# Altium schematic symbol library Audio-Beamformer.SCHLIB: 43 symbols
Pins are listed as number, name and electrical type; pins without a type are passive.

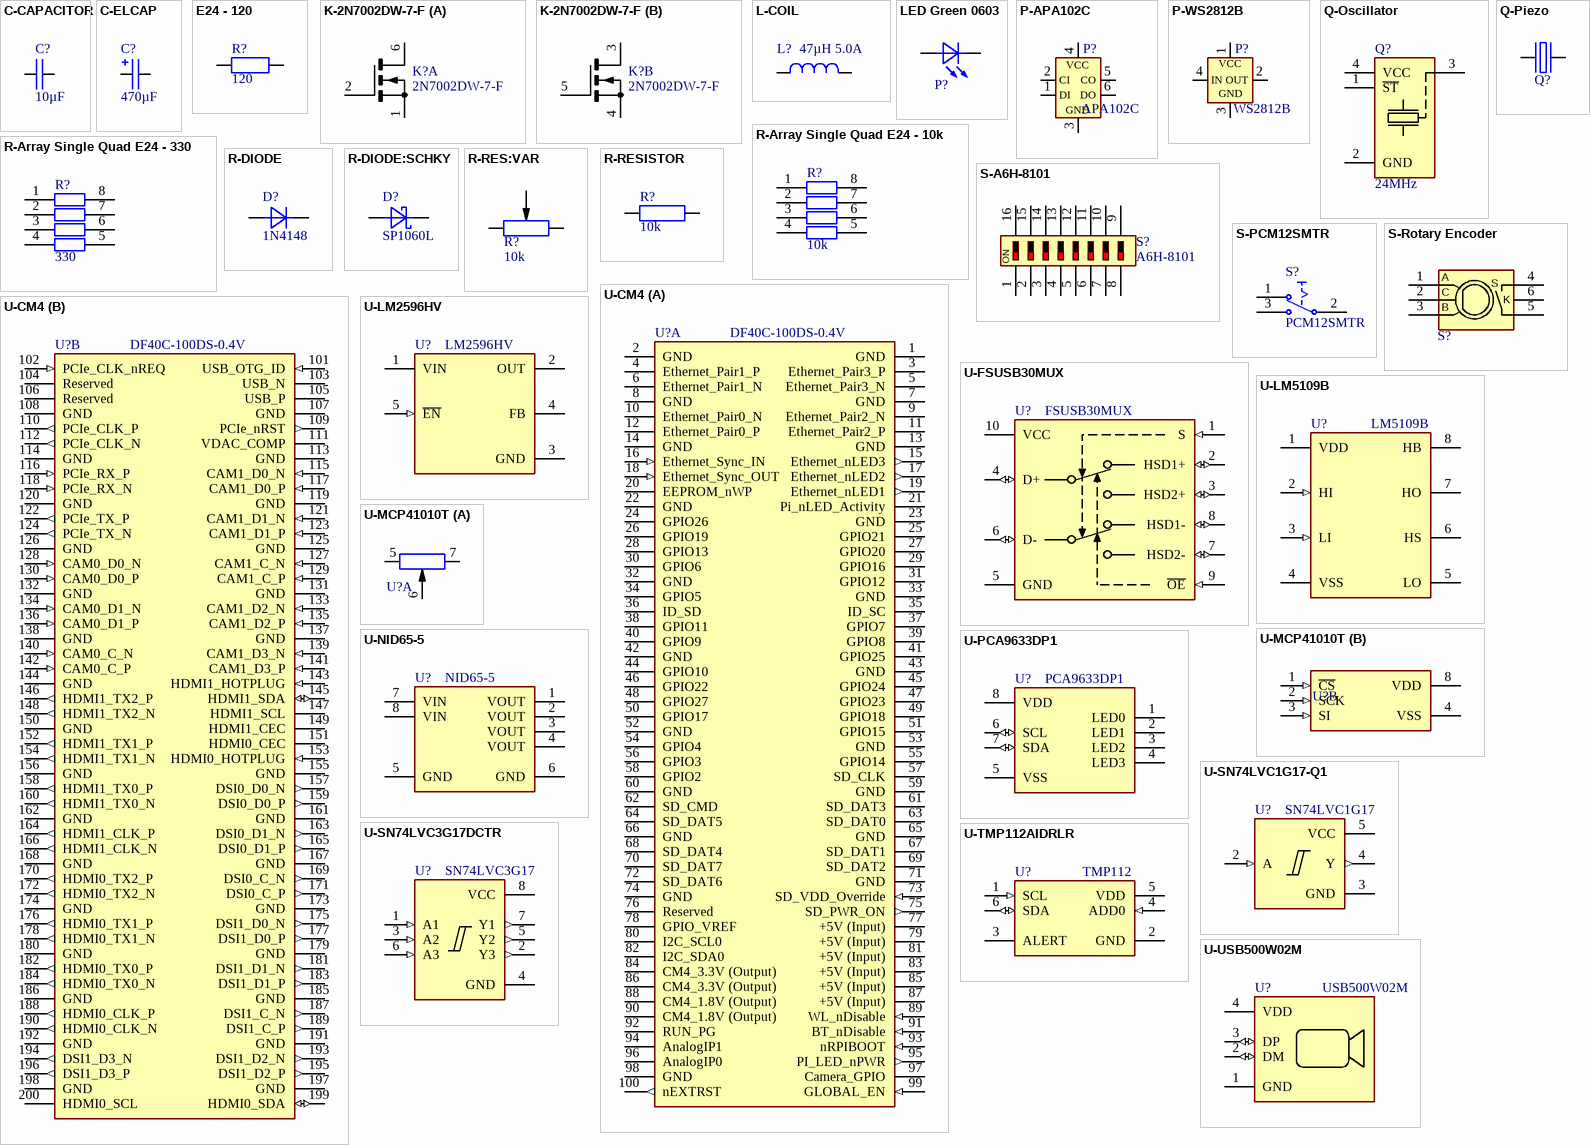
[diagram p0: symbols C-CAPACITOR to U-USB500W02M]

## C-CAPACITOR
designator C?, comment 10µF
CAP-MK; Component Description: Multilayer Ceramic Capacitors; Component Value: 10µF 50V; Digikey: 445-7886-1-ND; Farnell: 2211092; Mouser: 810-CGA5L3X5R1H106K; JLC-Parts: C13585; Unit Price: 0.27
footprint SMD Keramikkondensator 1206
pins: 1, 2
1 alternate drawing of the same symbol

## C-ELCAP
designator C?, comment 470µF
CAP-Elko; Component Description: Electrolytic Capacitor; Component Value: 470µF 25V; Mouser: 140-VEJ471M1ETR1010; JLC-Parts: C176672; Unit Price: 0.17
footprint SMD Elko 10.0x10.0
pins: M -, P +
2 alternate drawings of the same symbol

## E24 - 120
designator R?, comment 120
SMD Chip Resistor E24; Component Value: 120 (75V, 100mW, 1%); ComponentLink1Description: Datasheet; ComponentLink1URL: https://datasheet.lcsc.com/lcsc/1810200710_UNI-ROYAL-Uniroyal-Elec-0603WAF4701T5E_C23162.pdf; Digikey: P120HCT-ND; Farnell: 2303067; JLC-Parts: C22787; Mouser: 667-ERJ-3EKF1200V; Unit Price: 0.01; Component Description: Chip Resistor
footprint SMD Widerstand 0603
pins: 1, 2
1 alternate drawing of the same symbol

## K-2N7002DW-7-F
designator K?, comment 2N7002DW-7-F
Dual N-Channel MOSFET; Digikey: 2N7002DW-FDICT-ND; Mouser: 621-2N7002DW-F; ComponentLink1Description: Datasheet; ComponentLink1URL: https://datasheet.lcsc.com/lcsc/1810111020_Diodes-Incorporated-2N7002DW-7-F_C83571.pdf; JLC-Parts: C83571; Component Description: Dual N-Channel MOSFET; Component Value: 2N7002DW-7-F; Unit Price: 0.35
footprint SMD IC SOT-363 (SC-70-6)
part A pins: 1 S1, 2 G1, 6 D1
part B pins: 3 D2, 4 S2, 5 G2

## L-COIL
designator L?, comment 47µH 5.0A
Shielded Power Inductor; ComponentLink1Description: Datasheet; ComponentLink1URL: https://datasheet.lcsc.com/lcsc/2003172239_YJYCOIN-YSPI1365-470M_C497913.pdf; Digikey: 118-SRP1265WA-470MCT-ND; Farnell: 3929029; JLC-Parts: C497913; Mouser: 652-SRP1265WA-470M; Component Description: Shielded Power Inductor; Component Value: 47µH 5.0A; Unit Price: 0.68
footprint SMD Inductor 13.8x12.6x6.5
pins: 1, 2
2 alternate drawings of the same symbol

## LED Green 0603
designator P?, comment Green  (value not drawn)
General Purpose LED; Component Value: Green (5mA, 2.4V); Digikey: 350-2035-1-ND; Farnell: 1465991; Mouser: 645-598-8070-107F; Unit Price: 0.34; ComponentLink1Description: Datasheet; ComponentLink1URL: https://datasheet.lcsc.com/szlcsc/Everlight-Elec-19-217-GHC-YR1S2-3T_C72043.pdf; JLC-Parts: C72043; Component Description: General Purpose LED
footprint SMD LED 0603 (SMD_LED_RED)
pins: A, K

## P-APA102C
designator P?, comment APA102C
Smart RGB-LED; Digikey: 1568-COM-16345-ND; Mouser: 474-COM-16345; ComponentLink1Description: Datasheet; ComponentLink1URL: https://cdn.sparkfun.com/datasheets/Components/LED/APA102C.pdf; Component Description: Smart RGB-LED; Component Value: APA102C; Unit Price: 0.35
pins: 1 DI, 2 CI, 3 GND (power), 4 VCC (power), 5 CO, 6 DO

## P-WS2812B
designator P?, comment WS2812B
Smart RGB-LED; aliExpress: 32550663121; Digikey: 1568-COM-16346-ND; Mouser: 474-COM-16346; JLC-Parts: C2843785; ComponentLink1Description: Datasheet; ComponentLink1URL: http://cdn.sparkfun.com/datasheets/BreakoutBoards/WS2812B.pdf; Component Description: Smart RGB-LED; Component Value: WS2812B; Unit Price: 0.10
footprint SMD LED WS2812B-5050 (SMD_LED_RED)
pins: 1 VCC (power), 2 OUT (power), 3 GND (power), 4 IN (power)

## Q-Oscillator
designator Q?, comment 24MHz
Crystal Oscillator; Bauteilwert: 24MHz (3.3V , ±10ppm); Stückpreis: 0.34; Beschreibung: Crystal Oscillator; DigiKey: ASE-24.000MHZ-LR-T; Mouser: 815-ASE24.000MHZLRT; Farnell: 3819793; JLC-Parts: C717686
footprint SMD Crystal Oscillator 3.2X2.5X1.2 (SMD_LED_RED)
pins: 1 ~{ST}, 2 GND, 3 OUT, 4 VCC

## Q-Piezo
designator Q?, comment MA40A16  (value not drawn)
Ultrasonic Transducer; Component Value: MA40A16 (40kHz, 16mm); ComponentLink1Description: Datasheet; Component Description: Ultrasonic Transducer; Unit Price: 0.40
footprint THT Transducer (MA40A16) (Capacitor, Electrolytic, Radial; Body 5 x 5 mm (Dia.xH typ); Pin Spacing 2 mm (typ))
pins: 1, 2

## R-Array Single Quad E24 - 10k
designator R?, comment 10k
Isolated Resistor Array; Component Value: 10k (4x, 50V, 62.5mW, 5%); ComponentLink1Description: Datasheet; ComponentLink1URL: https://datasheet.lcsc.com/lcsc/1810191515_UNI-ROYAL-Uniroyal-Elec-4D03WGJ0103T5E_C29718.pdf; Digikey: Y4103CT-ND; Farnell: 2060167; JLC-Parts: C29718; Mouser: 667-EXB-V8V103JV; Unit Price: 0.01; Component Description: Isolated Resistor Array
footprint SMD Widerstand Array 4-Fach 0603
pins: 1, 2, 3, 4, 5, 6, 7, 8

## R-Array Single Quad E24 - 330
designator R?, comment 330
Isolated Resistor Array; Component Value: 330 (4x, 50V, 62.5mW, 5%); ComponentLink1Description: Datasheet; ComponentLink1URL: https://datasheet.lcsc.com/lcsc/1810170717_UNI-ROYAL-Uniroyal-Elec-4D03WGJ0331T5E_C12018.pdf; Digikey: Y4331CT-ND; Farnell: 2060160; JLC-Parts: C12018; Mouser: 667-EXB-V8V331JV; Unit Price: 0.01; Component Description: Isolated Resistor Array
footprint SMD Widerstand Array 4-Fach 0603
pins: 1, 2, 3, 4, 5, 6, 7, 8

## R-DIODE
designator D?, comment 1N4148
DIODE (alt V); Component Description: Fast Switching Diode; Component Value: 1N4148WTR; Digikey: 1655-1360-1-ND; Farnell: 2306363; Mouser: 750-1N4148W-HF; ComponentLink1Description: Datasheet; ComponentLink1URL: https://datasheet.lcsc.com/lcsc/1811061725_ST-Semtech-1N4148W_C81598.pdf; JLC-Parts: C81598; Unit Price: 0.01
footprint SMD Diode SOD-123 (SM LED; 2 Flat Leads)
pins: A, K
2 alternate drawings of the same symbol

## R-DIODE:SCHKY
designator D?, comment SP1060L
S-DIODE; Component Description: Low Voltage Schottky-Diode; JLC-Parts: C2693399; ComponentLink1Description: Datasheet; ComponentLink1URL: https://datasheet.lcsc.com/lcsc/2103051837_Changjiang-Electronics-Tech--CJ-SP1060L_C2693399.pdf; Component Value: SP1060L; Unit Price: 0.32
footprint SMD Diode TO-277 (SM LED; 2 Flat Leads)
pins: A, K

## R-RES:VAR
designator R?, comment 10k
RES-VAR; Component Description: Potentiometer; Component Value: RK09D1130C2P (10k); ComponentLink1Description: Datasheet; ComponentLink1URL: https://tech.alpsalpine.com/prod/e/html/potentiometer/rotarypotentiometers/rk09k/rk09d1130c2p.html; JLC-Parts: C361173; Mouser: 688-RK09D1130C2P; Unit Price: 0.90
footprint THT Potentiometer (RK09D1130C2P) (Capacitor, Electrolytic, Radial; Body 5 x 5 mm (Dia.xH typ); Pin Spacing 2 mm (typ))
pins: CCW, CW, M
2 alternate drawings of the same symbol

## R-RESISTOR
designator R?, comment 10k
RES (E=Heizwiderstand B=Messwandler); Component Description: Thick Film Chip Resistor; Component Value: 10k (75V, 100mW, 1%); Digikey: P10.0KHCT-ND; Farnell: 2303192; Mouser: 667-ERJ-3EKF1002V; JLC-Parts: C25804; Unit Price: 0.01
footprint SMD Widerstand 0603
pins: 1, 2
1 alternate drawing of the same symbol

## S-A6H-8101
designator S?, comment A6H-8101
DIP-Switch 8 Positions; Digikey: SW1118-ND; Farnell: 8774277; Mouser: 653-A6H-8101; JLC-Parts: C89711; Component Description: DIP-Switch 8 Positions; Component Value: A6H-8101; Unit Price: 2.92
footprint SMD DIP-Switch 8-Pos
pins: 1, 2, 3, 4, 5, 6, 7, 8, 9, 10, 11, 12, 13, 14, 15, 16
2 alternate drawings of the same symbol
text: ON

## S-PCM12SMTR
designator S?, comment PCM12SMTR
Miniature Slide Switch; aliExpress: 33002042977; Component Value: PCM12SMTR (SPDT); Digikey: 401-2016-1-ND; Mouser: 611-PCM12SMTR; Farnell: 9575146; JLC-Parts: C221841; Component Description: Miniature Slide Switch; Unit Price: 0.77
footprint SMD Switch SPDT (PCM12SMTR)
pins: 1 NC1, 2 COMMON1, 3 NO1

## S-Rotary Encoder
designator S?, comment PEC11R-4025F-S0024  (value not drawn)
Rotary Encoder; Component Description: Rotary Encoder with Switch; Digikey: PEC11R-4025F-S0024; Mouser: 652-PEC11R4025FS0024; ComponentLink1Description: Datasheet; Component Value: PEC11R-4025F-S0024
footprint THT Rotary Encoder with Switch
pins: 1 A, 2 C, 3 B, 4 S, 5 S, 6 K

## U-CM4
designator U?, comment DF40C-100DS-0.4V
Board-To-Board Connector; ComponentLink1Description: Datasheet; ComponentLink1URL: https://www.farnell.com/datasheets/2691051.pdf; Digikey: H11615CT-ND; Component Value: DF40C-100DS-0.4V; Farnell: 2427679; JLC-Parts: C597931; Mouser: 798-DF40C100DS0.4V51; Unit Price: 1.59; Component Description: Board-To-Board Connector
footprint SMD IC TO-263-5
part A pins: 1 GND (power) "Ground (0V)", 2 GND (power) "Ground (0V)", 3 Ethernet_Pair3_P "Ethernet Pair 3 Positive ( connect to Transformer or MagJack)", 4 Ethernet_Pair1_P "Ethernet Pair 1 Positive ( connect to Transformer or MagJack)", 5 Ethernet_Pair3_N "Ethernet Pair 3 Negative ( connect to Transformer or MagJack)", 6 Ethernet_Pair1_N "Ethernet Pair 1 Negative ( connect to Transformer or MagJack)", 7 GND (power) "Ground (0V)", 8 GND (power) "Ground (0V)", 9 Ethernet_Pair2_N "Ethernet Pair 2 Negative ( connect to Transformer or MagJack)", 10 Ethernet_Pair0_N "Ethernet Pair 0 Negative ( connect to Transformer or MagJack)", 11 Ethernet_Pair2_P "Ethernet Pair 2 Positive ( connect to Transformer or MagJack)", 12 Ethernet_Pair0_P "Ethernet Pair 0 Positive ( connect to Transformer or MagJack)", 13 GND (power) "Ground (0V)", 14 GND (power) "Ground (0V)", 15 Ethernet_nLED3 (out) "Low Active Ethernet Activity indicator ( 3.3V signal) Typically a Green LED is connected to this pin: IOL = 8mA @ VOL< 0.4V", 16 Ethernet_Sync_IN (in) "IEEE1588 SYNC Input pin ( 1.8V signal : IOL = 8mA @ VOL< 0.4V )", 17 Ethernet_nLED2 (out) "Low Active Ethernet speed indicator ( 3.3V signal) Typically a Yellow LED is connected to this pin. A low State indicates the 1Gbit or 100Mbit Link : IOL = 8mA @ VOL< 0.4V", 18 Ethernet_Sync_OUT (in) "IEEE1588 SYNC Output pin ( 1.8V signal : IOL = 8mA @ VOL< 0.4V )", 19 Ethernet_nLED1 (out) "Low Active Ethernet speed indicator ( 3.3V signal) Typically a Yellow LED is connected to this pin. A low State indicates the 1Gbit or 10Mbit Link : IOL = 8mA @ VOL< 0.4V", 20 EEPROM_nWP "Leaving floating NB internally pulled up to CM4_3.3V via 100K ( VIL <0.8V) but can be grounded to prevent writing to the on board EEPROM which stores the bootcode", 21 Pi_nLED_Activity (oc) "Low Active Pi Activity LED. 20mA Max 5V tolerant ( VOL<0.4V). ( this is the signal that drives the Green LED on the Raspberry Pi 4, Model B )", 22 GND (power) "Ground (0V)", 23 GND (power) "Ground (0V)", 24 GPIO26 "Pin37", 25 GPIO21 "Pin40", 26 GPIO19 "Pin35", 27 GPIO20 "Pin38", 28 GPIO13 "Pin33 PWM1", 29 GPIO16 "Pin36", 30 GPIO6 "Pin31", 31 GPIO12 "Pin32 PWM0", 32 GND (power) "Ground (0V)", 33 GND (power) "Ground (0V)", 34 GPIO5 "Pin29", 35 ID_SC "Pin28 GPIO1 SCL0", 36 ID_SD "Pin27 GPIO0 SDA0", 37 GPIO7 "Pin26 SPI0_CE1", 38 GPIO11 "Pin23 SPI0_CLK", 39 GPIO8 "Pin24 SPI0_CE0", 40 GPIO9 "Pin21 SPI0_MISO", 41 GPIO25 "Pin22", 42 GND (power) "Ground (0V)", 43 GND (power) "Ground (0V)", 44 GPIO10 "Pin19 SPI0_MOSI", 45 GPIO24 "Pin18", 46 GPIO22 "Pin15", 47 GPIO23 "Pin16", 48 GPIO27 "Pin13", 49 GPIO18 "Pin12", 50 GPIO17 "Pin11", 51 GPIO15 "Pin10 RXD0", 52 GND (power) "Ground (0V)", 53 GND (power) "Ground (0V)", 54 GPIO4 "Pin7 GPCLK0", 55 GPIO14 "Pin8 TXD0", 56 GPIO3 "Pin5 SCL1 Internal 1.8K pull up", 57 SD_CLK "SDCARD Clock signal (only available on CM4Lite)", 58 GPIO2 "Pin3 SDA1 Internal 1.8K pull up", 59 GND (power) "Ground (0V)", 60 GND (power) "Ground (0V)", 61 SD_DAT3 "SDCARD/eMMC Data3 signal (only available on CM4Lite)", 62 SD_CMD "SDCARD/eMMC Command signal (only available on CM4Lite)", 63 SD_DAT0 "SDCARD/eMMC Data0 signal (only available on CM4Lite)", 64 SD_DAT5 "SDCARD/eMMC Data5 signal (only available on CM4Lite)", 65 GND (power) "Ground (0V)", 66 GND (power) "Ground (0V)", 67 SD_DAT1 "SDCARD/eMMC Data1 signal (only available on CM4Lite)", 68 SD_DAT4 "SDCARD/eMMC Data4 signal (only available on CM4Lite)", 69 SD_DAT2 "SDCARD/eMMC Data2 signal (only available on CM4Lite)", 70 SD_DAT7 "SDCARD/eMMC Data7 signal (only available on CM4Lite)", 71 GND (power) "Ground (0V)", 72 SD_DAT6 "SDCARD/eMMC Data6 signal (only available on CM4Lite)", 73 SD_VDD_Override (in) "Force SDCARD/eMMC interface to 1.8V signalling if set to 3.3V, otherwise leave unconnected. Typically only used if external eMMC is connected", 74 GND (power) "Ground (0V)", 75 SD_PWR_ON (out) "Output to Power switch for SDCARD. CM4 sets this pin High (3.3V) to signal that Power to the SDCARD should be turned on. If booting from the SDCARD is required then a pullup should be fitted (only available on CM4Lite)", 76 Reserved "Do not Connect anything to this pin.", 77 +5V (Input) (power) "4.75V-5.25V Main power input", 78 GPIO_VREF (power) "Must be connected to CM4_3.3V ( pins 84 and 86 ) for 3.3V GPIO or CM4_1.8V ( pins 88 and 90) for 1.8V GPIO. This pin cannot be floating or connected to ground", 79 +5V (Input) (power) "4.75V-5.25V Main power input", 80 I2C_SCL0 "IIC Clock pin ( Raspberry Pi GPIO45) Typically used for Camera and Displays Internal 1.8K pull up to CM4_3.3V", 81 +5V (Input) (power) "4.75V-5.25V Main power input", 82 I2C_SDA0 "IIC Data pin ( Raspberry Pi GPIO44 ) Typically used for Camera and Displays Internal 1.8K pull up to CM4_3.3V", 83 +5V (Input) (power) "4.75V-5.25V Main power input", 84 CM4_3.3V (Output) (power) "3.3V +/-2.5% Power Output max 300mA per pin for a total of 600mA. This will be powered down during power off or GLOBAL_EN being set low", 85 +5V (Input) (power) "4.75V-5.25V Main power input", 86 CM4_3.3V (Output) (power) "3.3V +/-2.5% Power Output max 300mA per pin for a total of 600mA. This will be powered down during power off or GLOBAL_EN being set low", 87 +5V (Input) (power) "4.75V-5.25V Main power input", 88 CM4_1.8V (Output) (power) "1.8V +/-2.5% Power Output max 300mA per pin for a total of 600mA. This will be powered down during power off or GLOBAL_EN being set low", 89 WL_nDisable (in) "Can be left floating if driven low the wireless interface will be disabled. Internal pulled up via 1.8K to CM4_3.3V", 90 CM4_1.8V (Output) (power) "1.8V +/-2.5% Power Output max 300mA per pin for a total of 600mA. This will be powered down during power off or GLOBAL_EN being set low", 91 BT_nDisable (in) "Can be left floating if driven low the Bluetooth interface will be disabled. Internal pulled up via 1.8K to CM4_3.3V", 92 RUN_PG "Bidirectional pin. Can be driven low ( via a 220R resistor) to Reset the CM4 CPU. As an Output a high signals Power Good and CPU running. Internally pulled up to +3.3V via 10K", 93 nRPIBOOT (in) "A low on this pin force booting from an RPI server ( e.g PC or a Raspberry Pi)  if not used leave floating. Internally pulled via 10K to +3.3V", 94 AnalogIP1 "Analogue input of the MAX7704. Typically connected to CC pin of Type C power connector", 95 PI_LED_nPWR (out) "Low active Output to drive Power On LED. This signal needs to be buffered.", 96 AnalogIP0 "Analogue input of the MAX7704. Typically connected to CC pin of Type C power connector", 97 Camera_GPIO "Typically used to Shutdown the camera to reduce power. Reassigning this pin to another function isn’t recommended. CM4_3.3V signalling", 98 GND (power) "Ground (0V)", 99 GLOBAL_EN (in) "Input. Drive low to power off CM4. Internally pulled up with a 100K to +5V", 100 nEXTRST (out) "Output Driven low during reset Driven high (CM4_3.3V) once CM4 CPU has started to boot"
part B pins: 101 USB_OTG_ID (in) "Input ( 3.3V signal ) USB OTG Pin. Internal pulled up. When grounded the CM4 becomes a USB host but the correct OS driver also needs to be used", 102 PCIe_CLK_nREQ (in) "Input ( 3.3V signal) PCIe Clock request pin (low to request PCI clock). Internal pulled up", 103 USB_N "USB D-", 104 Reserved "Do not Connect anything to this pin.", 105 USB_P "USB D+", 106 Reserved "Do not Connect anything to this pin.", 107 GND (power) "Ground (0V)", 108 GND (power) "Ground (0V)", 109 PCIe_nRST (out) "Output (+3.3V signal) PCIe Reset Low active", 110 PCIe_CLK_P (out) "PCIe Clock Out Positive (100MHz) NB AC coupling Capacitor Included on CM4", 111 VDAC_COMP "Video DAC output (TV OUT)", 112 PCIe_CLK_N (out) "PCIe Clock Out Negative (100MHz) NB AC coupling Capacitor Included on CM4", 113 GND (power) "Ground (0V)", 114 GND (power) "Ground (0V)", 115 CAM1_D0_N (in) "Input Camera1 D0 Negative", 116 PCIe_RX_P (in) "Input PCIe GEN 2 RX Positive NB External AC coupling Capacitor required", 117 CAM1_D0_P (in) "Input Camera1 D0 Positive", 118 PCIe_RX_N (in) "Input PCIe GEN 2 RX Negative NB External AC coupling Capacitor required", 119 GND (power) "Ground (0V)", 120 GND (power) "Ground (0V)", 121 CAM1_D1_N (in) "Input Camera1 D1 Negative", 122 PCIe_TX_P (out) "Output PCIe GEN 2 TX Positive NB AC coupling Capacitor Included on CM4", 123 CAM1_D1_P (in) "Input Camera1 D1 Positive", 124 PCIe_TX_N (out) "Output PCIe GEN 2 TX Positive NB AC coupling Capacitor Included on CM4", 125 GND (power) "Ground (0V)", 126 GND (power) "Ground (0V)", 127 CAM1_C_N (in) "Input Camera1 Clock Negative", 128 CAM0_D0_N (in) "Input Camera0 D0 Negative", 129 CAM1_C_P (in) "Input Camera1 Clock Positive", 130 CAM0_D0_P (in) "Input Camera0 D0 Positive", 131 GND (power) "Ground (0V)", 132 GND (power) "Ground (0V)", 133 CAM1_D2_N (in) "Input Camera1 D2 Negative", 134 CAM0_D1_N (in) "Input Camera0 D1 Negative", 135 CAM1_D2_P (in) "Input Camera1 D2 Positive", 136 CAM0_D1_P (in) "Input Camera0 D1 Positive", 137 GND (power) "Ground (0V)", 138 GND (power) "Ground (0V)", 139 CAM1_D3_N (in) "Input Camera1 D3 Negative", 140 CAM0_C_N (in) "Input Camera0 Clock Negative", 141 CAM1_D3_P (in) "Input Camera1 D3 Positive", 142 CAM0_C_P (in) "Input Camera0 Clock Positive", 143 HDMI1_HOTPLUG (in) "Input HDMI1 Hotplug Internally pulled down with a 100K. 5V tolerant. (It can be connected directly to a HDMI connector a small amount of ESD protection is provided on the CM4 by an on board HDMI05-CL02F3)", 144 GND (power) "Ground (0V)", 145 HDMI1_SDA (io) "Bidir HDMI1 SDA Internally pulled up with a 1.8K. 5V tolerant. (It can be connected directly to a HDMI connector a small amount of ESD protection is provided on the CM4 by an on board HDMI05-CL02F3)", 146 HDMI1_TX2_P (out) "Output HDMI1 TX2 Positive", 147 HDMI1_SCL (oc) "Input HDMI1 SCL Internally pulled up with a 1.8K. 5V tolerant. (It can be connected directly to a HDMI connector a small amount of ESD protection is provided on the CM4 by an on board HDMI05-CL02F3)", 148 HDMI1_TX2_N (out) "Output HDMI1 TX2 Negative", 149 HDMI1_CEC (oc) "Input HDMI1 CEC Internally pulled up with a 27K. 5V tolerant. (It can be connected directly to a HDMI connector a small amount of ESD protection is provided on the CM4 by an on board HDMI05-CL02F3)", 150 GND (power) "Ground (0V)", 151 HDMI0_CEC (oc) "Input HDMI0 CEC Internally pulled up with a 27K. 5V tolerant (It can be connected directly to a HDMI connector a small amount of ESD protection is provided on the CM4 by an on board HDMI05-CL02F3)", 152 HDMI1_TX1_P (out) "Output HDMI1 TX1 Positive", 153 HDMI0_HOTPLUG (in) "Input HDMI0 Hotplug Internally pulled down 100K. 5V tolerant. (It can be connected directly to a HDMI connector a small amount of ESD protection is provided on the CM4 by an on board HDMI05-CL02F3)", 154 HDMI1_TX1_N (out) "Output HDMI1 TX1 Negative", 155 GND (power) "Ground (0V)", 156 GND (power) "Ground (0V)", 157 DSI0_D0_N (out) "Output Display0 D0 Negative", 158 HDMI1_TX0_P (out) "Output HDMI1 TX0 Positive", 159 DSI0_D0_P (out) "Output Display0 D0 Positive", 160 HDMI1_TX0_N (out) "Output HDMI1 TX0 Negative", 161 GND (power) "Ground (0V)", 162 GND (power) "Ground (0V)", 163 DSI0_D1_N (out) "Output Display0 D1 Negative", 164 HDMI1_CLK_P (out) "Output HDMI1 Clock Positive", 165 DSI0_D1_P (out) "Output Display0 D1 Positive", 166 HDMI1_CLK_N (out) "Output HDMI1 Clock Negative", 167 GND (power) "Ground (0V)", 168 GND (power) "Ground (0V)", 169 DSI0_C_N (out) "Output Display0 Clock Negative", 170 HDMI0_TX2_P (out) "Output HDMI0 TX2 Positive", 171 DSI0_C_P (out) "Output Display0 Clock Positive", 172 HDMI0_TX2_N (out) "Output HDMI0 TX2 Negative", 173 GND (power) "Ground (0V)", 174 GND (power) "Ground (0V)", 175 DSI1_D0_N (out) "Output Display1 D0 Negative", 176 HDMI0_TX1_P (out) "Output HDMI0 TX1 Positive", 177 DSI1_D0_P (out) "Output Display1 D0 Positive", 178 HDMI0_TX1_N (out) "Output HDMI0 TX1 Negative", 179 GND (power) "Ground (0V)", 180 GND (power) "Ground (0V)", 181 DSI1_D1_N (out) "Output Display1 D1 Negative", 182 HDMI0_TX0_P (out) "Output HDMI0 TX0 Positive", 183 DSI1_D1_P (out) "Output Display1 D1 Positive", 184 HDMI0_TX0_N (out) "Output HDMI0 TX0 Negative", 185 GND (power) "Ground (0V)", 186 GND (power) "Ground (0V)", 187 DSI1_C_N (out) "Output Display1 Clock Negative", 188 HDMI0_CLK_P (out) "Output HDMI0 Clock Positive", 189 DSI1_C_P (out) "Output Display1 Clock Positive", 190 HDMI0_CLK_N (out) "Output HDMI0 Clock Negative", 191 GND (power) "Ground (0V)", 192 GND (power) "Ground (0V)", 193 DSI1_D2_N (out) "Output Display1 D2 Negative", 194 DSI1_D3_N (out) "Output Display1 D3 Negative", 195 DSI1_D2_P (out) "Output Display1 D2 Positive", 196 DSI1_D3_P (out) "Output Display1 D3 Positive", 197 GND (power) "Ground (0V)", 198 GND (power) "Ground (0V)", 199 HDMI0_SDA (io) "Bidir HDMI0 SDA Internally pulled up with a 1.8K. 5V tolerant. (It can be connected directly to a HDMI connector a small amount of ESD protection is provided on the CM4 by an on board HDMI05-CL02F3)", 200 HDMI0_SCL (oc) "Bidir HDMI0 SCL Internally pulled up with a 1.8K. 5V tolerant. (It can be connected directly to a HDMI connector a small amount of ESD protection is provided on the CM4 by an on board HDMI05-CL02F3)"

## U-FSUSB30MUX
designator U?, comment FSUSB30MUX
High Speed USB 2.0 Switch; Digikey: FSUSB30MUXCT-ND; Farnell: 1495465; Mouser: 512-FSUSB30MUX; Component Description: High Speed USB 2.0 Switch; ComponentLink1Description: Datasheet; ComponentLink1URL: https://datasheet.lcsc.com/lcsc/1809111813_onsemi-FSUSB30MUX_C11143.pdf; Component Value: FSUSB30MUX; JLC-Parts: C11143; Unit Price: 0.41
footprint SMD IC SOT-363 (SC-70-5)
pins: 1 NC hidden, 1 S (in), 2 HSD1+ (io), 3 HSD2+ (io), 4 D+ (io), 5 GND (power), 6 D- (io), 7 HSD2- (io), 8 HSD1- (io), 9 ~{OE} (in), 10 VCC (power)

## U-LM2596HV
designator U?, comment LM2596HV
High Power Switching Buck Converter; Component Value: LM2596HVS-ADJ/TR; ComponentLink1Description: Datasheet; ComponentLink1URL: https://datasheet.lcsc.com/lcsc/2006151006_HTC-Korea-TAEJIN-Tech-LM2596HVGR-ADJ_C508705.pdf; JLC-Parts: C356713; Unit Price: 1.71; Component Description: High Power Switching Buck Converter
footprint SMD IC TO-263-5
pins: 1 VIN (power), 2 OUT, 3 GND (power), 4 FB, 5 ~{EN} (in)

## U-LM5109B
designator U?, comment LM5109B
High Voltage 1A Peak Half Bridge Gate Driver; Component Description: High Voltage Gate Driver; ComponentLink1Description: Datasheet; ComponentLink1URL: https://datasheet.lcsc.com/lcsc/1809172040_Texas-Instruments-LM5109AMAX-NOPB_C129332.pdf; Digikey: LM5109BMA/NOPB-ND; Component Value: LM5109B; Farnell: 3005776; JLC-Parts: C116862; Mouser: 926-LM5109BMAX/NOPB; Unit Price: 1.13
footprint SMD IC SOIC-8
pins: 1 VDD (power), 2 HI (in), 3 LI (in), 4 VSS (power), 5 LO, 6 HS, 7 HO, 8 HB

## U-MCP41010T
designator U?, comment MCP41010T  (value not drawn)
Component Description: Digital-Potentiometer 8-Bit; Component Value: MCP41010T-I/SN (10k); ComponentLink1Description: Datasheet; ComponentLink1URL: https://datasheet.lcsc.com/lcsc/1806121747_Microchip-Tech-MCP41010T-I-SN_C136395.pdf; Digikey: MCP41010T-I/SNCT-ND; Farnell: 2857765; JLC-Parts: C136395; Mouser: 579-MCP41010T-I/SN; Unit Price: 2.70
footprint SMD IC TSSOP-14 (Shrink Small Outline; 16 Leads; Body Width 4.4 mm; Pitch 0.65 mm)
part A pins: 5 H, 6 M, 7 L
part B pins: 1 ~{CS} (in), 2 SCK (in), 3 SI (in), 4 VSS (power), 7 NC hidden, 8 NC hidden, 8 VDD (power), 9 NC hidden, 12 NC hidden, 13 NC hidden

## U-NID65-5
designator U?, comment NID65-5
High Power Switching Buck Converter; ComponentLink1Description: Datasheet; ComponentLink1URL: https://www.meanwellusa.com/webapp/product/search.aspx?prod=NID65#1; Digikey: NID65-5-ND; Component Value: NID65-5; Farnell: 3253319; Mouser: 709-NID65-5; Unit Price: 16.40; Component Description: High Power Switching Buck Converter
footprint SMD IC TO-263-5
pins: 1 VOUT (power), 2 VOUT (power), 3 VOUT (power), 4 VOUT (power), 5 GND (power), 6 GND (power), 7 VIN (power), 8 VIN (power), 9 NC hidden, 10 NC hidden, 11 NC hidden

## U-PCA9633DP1
designator U?, comment PCA9633DP1
I2C Quad LED-Driver; Digikey: 568-3236-1-ND; Farnell: 2759862; Mouser: 771-PCA9633DP1-T; Component Description: I2C Quad LED-Driver; ComponentLink1Description: Datasheet; ComponentLink1URL: https://datasheet.lcsc.com/lcsc/1806132321_NXP-Semicon-PCA9633DP1-118_C88381.pdf; Component Value: PCA9633DP1; JLC-Parts: C88381; Unit Price: 1.45
pins: 1 LED0, 2 LED1, 3 LED2, 4 LED3, 5 VSS (power), 6 SCL (io), 7 SDA (io), 8 VDD (power)

## U-SN74LVC1G17-Q1
designator U?, comment SN74LVC1G17
Single Schmitt-Trigger Buffer; Component Value: SN74LVC1G17-Q1; Digikey: 296-23709-1-ND; Farnell: 2499832; Mouser: 595-74LVC1G17QDCKRQ1; Component Description: Single Schmitt-Trigger Buffer; ComponentLink1Description: Datasheet; ComponentLink1URL: https://datasheet.lcsc.com/lcsc/1809192011_Texas-Instruments-SN74LVC1G17DCKR_C10425.pdf; JLC-Parts: C10425; Unit Price: 0.36
footprint SMD IC SOT-363 (SC-70-5)
pins: 1 NC hidden, 2 A (in), 3 GND (power), 4 Y (out), 5 VCC (power)

## U-SN74LVC3G17DCTR
designator U?, comment SN74LVC3G17
Tripple Schmitt-Trigger Buffer; Component Value: SN74LVC3G17DCTR; Digikey: 296-16915-1-ND; Farnell: 595-SN74LVC3G17DCTR; Mouser: 595-SN74LVC3G17DCTR; Component Description: Tripple Schmitt-Trigger Buffer; ComponentLink1Description: Datasheet; ComponentLink1URL: https://datasheet.lcsc.com/lcsc/1809081631_Texas-Instruments-SN74LVC3G17DCTR_C18213.pdf; JLC-Parts: C18213; Unit Price: 0.70
pins: 1 A1 (in), 2 Y3 (out), 3 A2 (in), 4 GND (power), 5 Y2 (out), 6 A3 (in), 7 Y1 (out), 8 VCC (power)

## U-TMP112AIDRLR
designator U?, comment TMP112
High-Accuracy, Low-Power, Digital Temperature Sensor; Bauteilwert: TMP112AIDRLR; Stückpreis: 1.79; Beschreibung: High-Accuracy, Low-Power, Digital Temperature Sensor; Digikey: 296-38578-1-ND; Farnell: 3009067; JLC-Parts: C28927; Mouser: 595-TMP112AIDRLR; ComponentLink1Description: Datasheet; ComponentLink1URL: https://www.ti.com/general/docs/suppproductinfo.tsp?distId=10&gotoUrl=https%3A%2F%2Fwww.ti.com%2Flit%2Fgpn%2Ftmp112
footprint SMD IC DFN-6 (2x2) (QFN, 48-Leads, Body 7x7mm, Pitch 0.5mm, IPC Medium Density)
pins: 1 SCL (in), 2 GND (power), 3 ALERT (oc), 4 ADD0 (in), 5 VDD (power), 6 SDA (io)

## U-USB500W02M
designator U?, comment USB500W02M
USB 5.0 Megapixel CMOS Camera Module; Stückpreis: 40.00; Bauteilwert: USB500W02M; Beschreibung: USB 5.0 Megapixel CMOS Camera Module; ComponentLink1Description: Datasheet; ComponentLink1URL: http://chinavasion.cn/upfile/2017/11/17/20171117105421_537.pdf
footprint SMD IC DFN-6 (2x2) (QFN, 48-Leads, Body 7x7mm, Pitch 0.5mm, IPC Medium Density)
pins: 1 GND (power), 2 DM (io), 3 DP (io), 4 VDD (power)

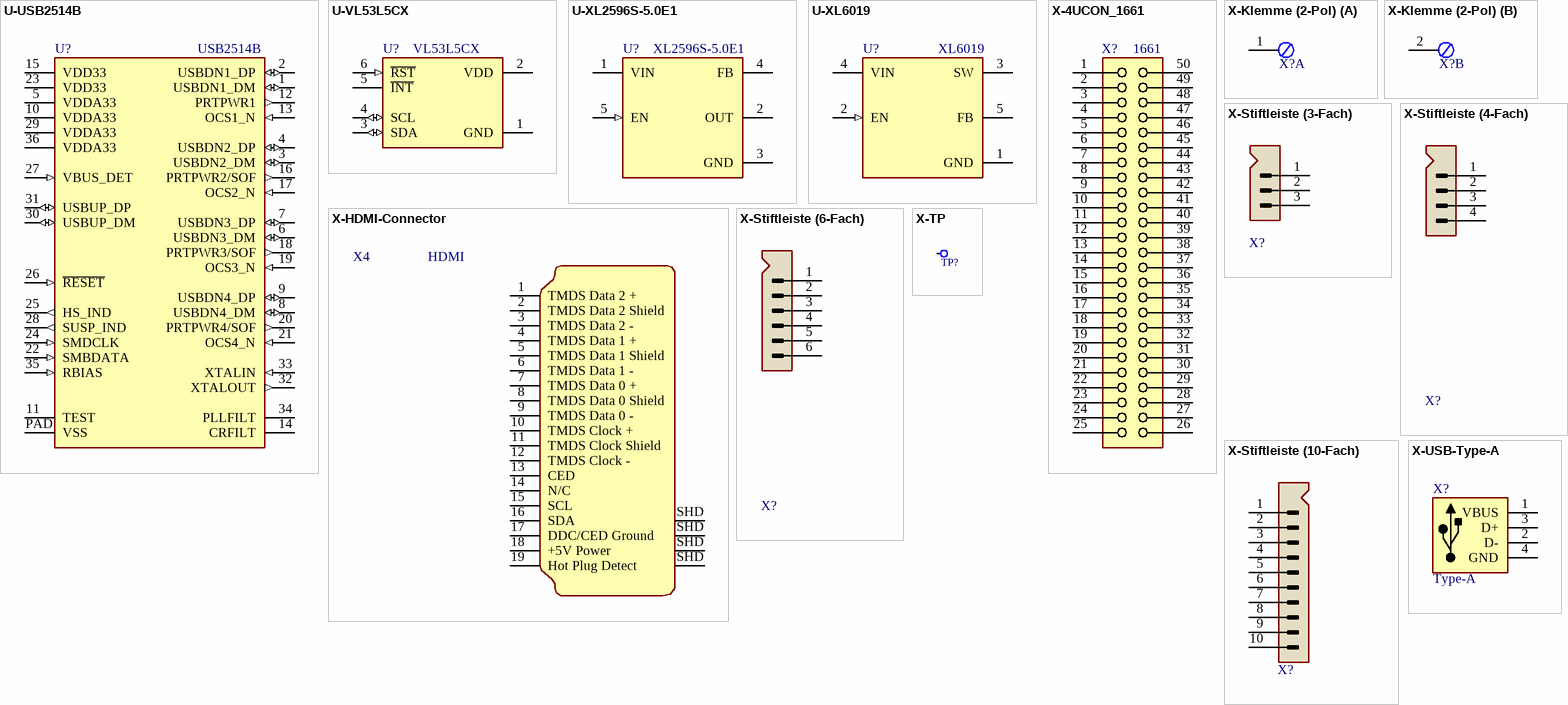
[diagram p1: symbols U-USB2514B to X-USB-Type-A]

## U-USB2514B
designator U?, comment USB2514B
USB 2.0 Hi-Speed Hub Controller; Component Value: USB2514B-AEZC-TR; Digikey: USB2514B-AEZC-CT-ND; Farnell: 2775061; Mouser: 886-USB2514B-AEZC-TR; Component Description: USB 2.0 Hi-Speed Hub Controller; ComponentLink1Description: Datasheet; ComponentLink1URL: https://datasheet.lcsc.com/lcsc/1809200030_Microchip-Tech-USB2514B-AEZC-TR_C16251.pdf; JLC-Parts: C16251; Unit Price: 6.37
pins: 1 USBDN1_DM (io), 2 USBDN1_DP (io), 3 USBDN2_DM (io), 4 USBDN2_DP (io), 5 VDDA33 (power), 6 USBDN3_DM (io), 7 USBDN3_DP (io), 8 USBDN4_DM (io), 9 USBDN4_DP (io), 10 VDDA33 (power), 11 TEST, 12 PRTPWR1 (out), 13 OCS1_N (in), 14 CRFILT, 15 VDD33 (power), 16 PRTPWR2/SOF (out), 17 OCS2_N (in), 18 PRTPWR3/SOF (out), 19 OCS3_N (in), 20 PRTPWR4/SOF (out), 21 OCS4_N (in), 22 SMBDATA (in), 23 VDD33 (power), 24 SMDCLK (in), 25 HS_IND (out), 26 ~{RESET} (in), 27 VBUS_DET (in), 28 SUSP_IND (out), 29 VDDA33 (power), 30 USBUP_DM (io), 31 USBUP_DP (io), 32 XTALOUT (out), 33 XTALIN (in), 34 PLLFILT, 35 RBIAS (in), 36 VDDA33 (power), PAD VSS (power)

## U-VL53L5CX
designator U?, comment VL53L5CX
Time-of-Flight 8x8 Multizone Sensor; ComponentLink1Description: Datasheet; ComponentLink1URL: https://www.st.com/resource/en/datasheet/vl53l5cx.pdf; Digikey: 1568-SEN-19013-ND; Component Value: VL53L5CX; Mouser: 474-SEN-19013; Unit Price: 22.95; Component Description: Time-of-Flight 8x8 Multizone Sensor
footprint SMD IC TO-263-5
pins: 1 GND (power), 2 VDD (power), 3 SDA (io), 4 SCL (io), 5 ~{INT} (oc), 6 ~{RST} (in)

## U-XL2596S-5.0E1
designator U?, comment XL2596S-5.0E1
High Power Switching Buck Converter; ComponentLink1Description: Datasheet; ComponentLink1URL: https://datasheet.lcsc.com/lcsc/1811021340_XLSEMI-XL2596S-5-0E1_C74190.pdf; Component Value: XL2596S-5.0E1; JLC-Parts: C74190; Unit Price: 0.58; Component Description: High Power Switching Buck Converter
footprint SMD IC TO-263-5
pins: 1 VIN (power), 2 OUT, 3 GND (power), 4 FB, 5 EN (in)

## U-XL6019
designator U?, comment XL6019
High Power Switching Boost Converter; ComponentLink1Description: Datasheet; ComponentLink1URL: http://www.xlsemi.com/datasheet/XL6019%20datasheet-English.pdf; Component Value: XL6019; JLC-Parts: C73018; Unit Price: 1.00; Component Description: High Power Switching Boost Converter
footprint SMD IC TO-263-5
pins: 1 GND (power), 2 EN (in), 3 SW, 4 VIN (power), 5 FB

## X-4UCON_1661
designator X?, comment 1661
Board-to-Board Connector (Receptacle); Component Value: PRT-16890 (1661); Digikey: 1568-PRT-16890-ND; Mouser: 474-PRT-16890; ComponentLink1Description: Datasheet; ComponentLink1URL: http://www.4uconnector.com/online/object/4udrawing/19008.pdf; Component Description: Board-to-Board Connector (Receptacle); Unit Price: 1.60
footprint SMD Connector (1661) (SMD_LED_RED)
pins: 1, 2, 3, 4, 5, 6, 7, 8, 9, 10, 11, 12, 13, 14, 15, 16, 17, 18, 19, 20, 21, 22, 23, 24, 25, 26, 27, 28, 29, 30, 31, 32, 33, 34, 35, 36, 37, 38, 39, 40, 41, 42, 43, 44, 45, 46, 47, 48, 49, 50

## X-HDMI-Connector
designator X4, comment HDMI
Female Right Angle; Component Description: HDMI-Connector (Female Right Angle); Digikey: SAM9475-ND; Farnell: 3742389; Mouser: 200-HDMR-19-01-SSMTR; ComponentLink1Description: Datasheet; ComponentLink1URL: https://datasheet.lcsc.com/lcsc/1811111311_BOOMELE-Boom-Precision-Elec-C138388_C138388.pdf; JLC-Parts: C138388; Unit Price: 0.21
footprint SMD HDMI Horizontal
pins: 1 TMDS Data 2 + "TMDS Data2+", 2 TMDS Data 2 Shield "TMDS Data2 Shield", 3 TMDS Data 2 - "TMDS Data2-", 4 TMDS Data 1 + "TMDS Data2+", 5 TMDS Data 1 Shield "TMDS Data2 Shield", 6 TMDS Data 1 - "TMDS Data2-", 7 TMDS Data 0 + "TMDS Data2+", 8 TMDS Data 0 Shield "TMDS Data2 Shield", 9 TMDS Data 0 - "TMDS Data2-", 10 TMDS Clock + "TMDS Data2+", 11 TMDS Clock Shield "TMDS Data2 Shield", 12 TMDS Clock - "TMDS Data2-", 13 CED "CEC", 14 N/C "Reserved (N/C on device)", 15 SCL, 16 SDA, 17 DDC/CED Ground "DDC/CEC Ground", 18 +5V Power, 19 Hot Plug Detect, SHD "Ground Plane (Shell)", SHD "Ground Plane (Shell)", SHD "Ground Plane (Shell)", SHD "Ground Plane (Shell)"
2 alternate drawings of the same symbol

## X-Klemme (2-Pol)
designator X?  (value not drawn)
Component Description: Screw Terminal; Component Value: WJ500V-5.08-2P (2-Pol, 250V, 8A, 5.08mm); ComponentLink1Description: Datasheet; ComponentLink1URL: https://datasheet.lcsc.com/lcsc/1912251636_Ningbo-Kangnex-Elec-WJ500V-5-08-2P_C8465.pdf; JLC-Parts: C8465; Unit Price: 0.08
footprint THT Schraubklemme 2-Pol (WJ500V-5.08-2P)
part A pins: 1
part B pins: 2

## X-Stiftleiste (3-Fach)
designator X?, comment Stiftleiste (3-Fach)  (value not drawn)
Component Description: Board-To-Wire Connector (Receptacle); Component Value: 61900311021; Digikey: 732-2700-ND; Farnell: 1841372; Mouser: 710-61900311021; ComponentLink1Description: Datasheet; ComponentLink1URL: https://www.farnell.com/datasheets/2977292.pdf; Unit Price: 0.58
footprint THT FAN-Anschluss 3-Pol
pins: 1, 2, 3
1 alternate drawing of the same symbol

## X-Stiftleiste (4-Fach)
designator X?, comment Board-To-Wire Connector (Receptacle)  (value not drawn)
Component Value: PTSM 0,5/ 4-HH-2,5-THR R32; Digikey: 277-2310-1-ND; Farnell: 3240558; Mouser: 651-1778641; Component Description: Board-To-Wire Connector (Receptacle); ComponentLink1Description: Datasheet; ComponentLink1URL: https://4donline.ihs.com/images/VipMasterIC/IC/PCON/PCONS21961/PCONS22028-1.pdf?hkey=52A5661711E402568146F3353EA87419; Unit Price: 0.74
footprint THT Flachbandkabel 10-Pol Vertikal
pins: 1, 2, 3, 4
1 alternate drawing of the same symbol

## X-Stiftleiste (6-Fach)
designator X?, comment Board-To-Wire Connector (Receptacle)  (value not drawn)
Component Value: PTSM 0,5/ 6-HH-2,5-THR R32; Digikey: 277-2312-1-ND; Farnell: 3240578; Mouser: 651-1778667; Component Description: Board-To-Wire Connector (Receptacle); ComponentLink1Description: Datasheet; ComponentLink1URL: https://4donline.ihs.com/images/VipMasterIC/IC/PCON/PCONS21961/PCONS22028-1.pdf?hkey=52A5661711E402568146F3353EA87419; Unit Price: 1.42
footprint THT Flachbandkabel 10-Pol Vertikal
pins: 1, 2, 3, 4, 5, 6
1 alternate drawing of the same symbol

## X-Stiftleiste (10-Fach)
designator X?, comment Stiftleiste (10-Fach)  (value not drawn)
Component Description: Pin Header; Component Value: 10-Pol; Digikey: 952-2250-ND; Farnell: 3756366; Mouser: 855-M20-9961045; Unit Price: 0.55
footprint THT Pin-Header 10x1 (90°)
pins: 1, 2, 3, 4, 5, 6, 7, 8, 9, 10

## X-TP
designator TP?  (value not drawn)  (no BOM)
Testpunkt; Component Description: Testpoint; Component Value: Ø 0.8mm; Unit Price: 0.00
footprint THT Testpunkt Ø1mm
pins: 1

## X-USB-Type-A
designator X?, comment Type-A
Component Value: 292303-1; Component Description: USB Connector Type-A; Digikey: A31726-ND; Farnell: 1076663; Mouser: 571-292303-1; Unit Price: 0.45; ComponentLink1Description: Datasheet; ComponentLink1URL: https://datasheet.lcsc.com/lcsc/1811131820_TE-Connectivity-292303-1_C86461.pdf; JLC-Parts: C86461
footprint THT Connector MUSBD111M5
pins: 1 VBUS, 2 D-, 3 D+, 4 GND